# Altium footprint library Semistors.PcbLib: 1 footprints
Each footprint in its own frame and in the unit in brackets; x right, y up, seen from the top. Pads: shape width x height; smd on the part's side, far side on the other; paste and mask are expansions set on the pad; w line width, h text height; cw(c..) or ccw(c..) is an arc to the next point about the centre after c.
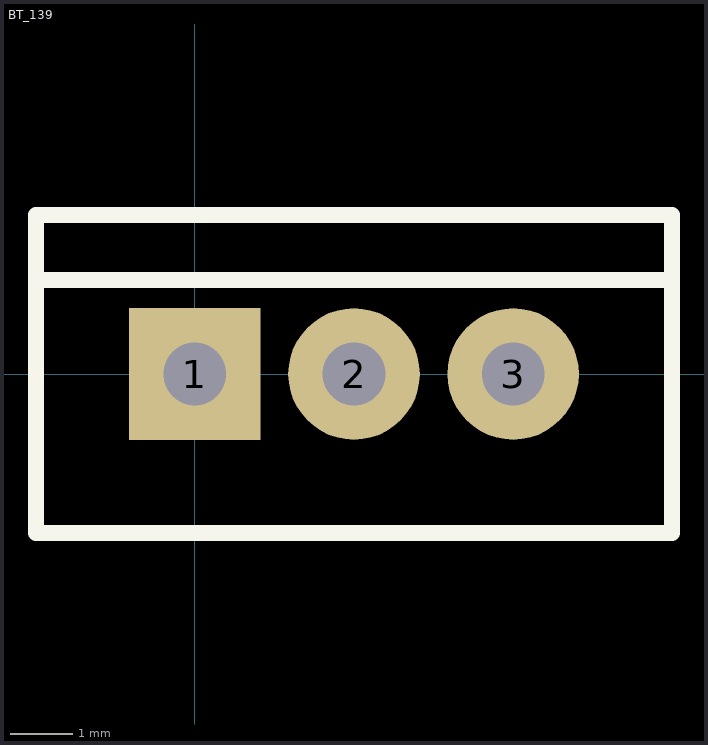
[diagram p0: the footprint, top view; thin cyan lines are the x and y axes]

## BT_139 [mm] "TO-220"
pads (3):
  rect 2.1x2.1 hole 1: 1(0,0)
  round 2.1 hole 1: 2(2.54,0) 3(5.08,0)
Top Overlay:
  lines w0.254: -2.5,1.5 7.62,1.5 ; -2.54,-2.54 -2.54,2.54 7.62,2.54 7.62,-2.54 -2.54,-2.54
3D body "CircuitWorks-TO-220HS.SLDPRT": height 18.54, standoff -3.81, extent -2.54,-1.397 7.62,3.175